# Altium footprint library Footprint.PcbLib: 105 footprints (part 7 of 7)
Each footprint in its own frame and in the unit in brackets; x right, y up, seen from the top. Pads: shape width x height; smd on the part's side, far side on the other; paste and mask are expansions set on the pad; w line width, h text height; cw(c..) or ccw(c..) is an arc to the next point about the centre after c.
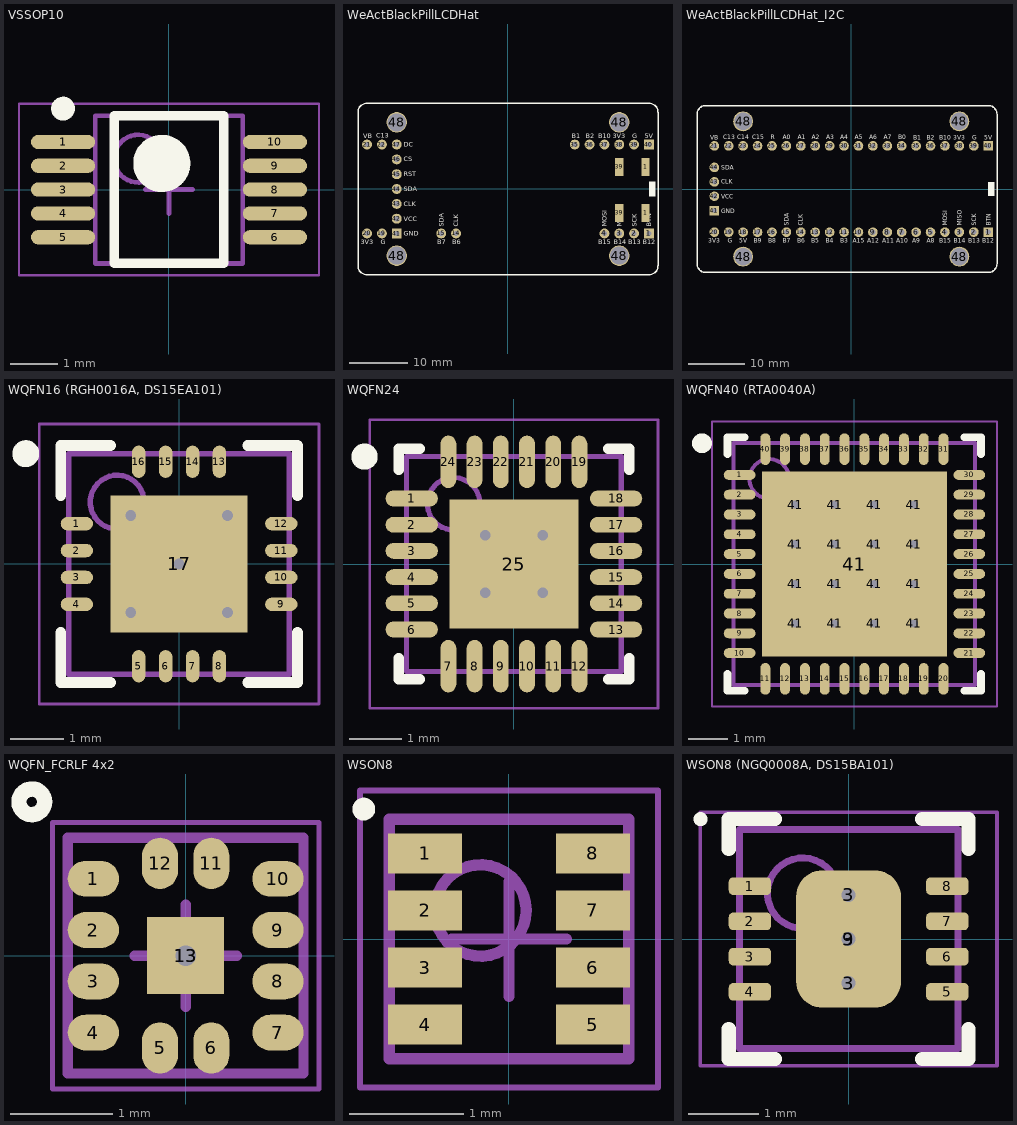
[diagram p6: the footprints below, top view; thin cyan lines are the x and y axes]

## VSSOP10 [mm]
height 1.1
pads (10):
  oval 1.35x0.3 smd: 1(-2.225,1) 2(-2.225,0.5) 3(-2.225,0) 4(-2.225,-0.5) 5(-2.225,-1) 6(2.225,-1) 7(2.225,-0.5) 8(2.225,0) 9(2.225,0.5) 10(2.225,1)
Top Overlay:
  circle w0.6: c-0.15,0.55 r0.3
  circle w0.25: c-2.225,1.7 r0.125
  lines w0.2: -1.15,-1.55 1.15,-1.55 1.15,1.55 -1.15,1.55 -1.15,-1.55
Mechanical 13:
  circle w0.1: c-0.65,0.65 r0.5
  lines w0.1: -1.55,-1.55 1.55,-1.55 1.55,1.55 -1.55,1.55 -1.55,-1.55
Mechanical 15:
  lines w0.05: -3.15,-1.8 3.15,-1.8 3.15,1.8 -3.15,1.8 -3.15,-1.8
  lines w0.1: -0.5,0 0.5,0 ; 0,-0.5 0,0.5
3D body: height 1.1, standoff 0.1, extent -1.55,-1.55 1.55,1.55

## WeActBlackPillLCDHat [mm]
pads (31):
  rect 1.4x3.1 smd: 1(23.55,-4.103) 1(23.55,3.797) 39(19.05,-4.103) 39(19.05,3.797)
  rect 1.7x1.7 hole 0.9: 1(24.13,-7.607) 40(24.13,7.607) 41(-19.05,-7.626)
  round 1.7 hole 0.9: 2(21.59,-7.607) 3(19.05,-7.607) 4(16.51,-7.607) 14(-8.89,-7.607) 15(-11.43,-7.607) 19(-21.59,-7.607) 20(-24.13,-7.607) 21(-24.13,7.607) 22(-21.59,7.607) 35(11.43,7.607) 36(13.97,7.607) 37(16.51,7.607) 38(19.05,7.607) 39(21.59,7.607) 42(-19.05,-5.086) 43(-19.05,-2.546) 44(-19.05,-0.006) 45(-19.05,2.534) 46(-19.05,5.074) 47(-19.05,7.614)
  round 3.5 hole 3.1: 48(-19.05,-11.417) 48(-19.05,11.417) 48(19.05,-11.417) 48(19.05,11.417)
Top Overlay:
  region: 25.273,1.27 24.13,1.27 24.13,-1.27 25.273,-1.27
  lines w0.254: -25.681,-13.167 ccw(c-24.155,-13.167) -24.182,-14.693 24.182,-14.693 ccw(c24.155,-13.167) 25.681,-13.167 25.681,13.167 ccw(c24.155,13.167) 24.182,14.693 -24.182,14.693 ccw(c-24.155,13.167) -25.681,13.167 -25.681,-13.167
  text "C13" at -22.55,8.75 h0.8
  text "DC" at -17.85,7.25 h0.8
  text "VCC" at -17.826,-5.501 h0.8
  text "GND" at -17.826,-8.042 h0.8
  text "SDA" at -17.826,-0.422 h0.8
  text "CLK" at -17.826,-2.922 h0.8
  text "B15" at 15.494,-9.482 h0.8
  text "B14" at 18.094,-9.482 h0.8
  text "B13" at 20.594,-9.482 h0.8
  text "B12" at 23.094,-9.482 h0.8
  text "CLK" at -8.506,-6.482 h0.8
  text "B6" at -9.506,-9.482 h0.8
  text "SDA" at -11.006,-6.481 h0.8
  text "B10" at 15.494,8.718 h0.8
  text "B2" at 13.294,8.718 h0.8
  text "B1" at 10.894,8.718 h0.8
  text "VB" at -24.806,8.718 h0.8
  text "3V3" at -25.206,-9.482 h0.8
  text "G" at -21.806,-9.482 h0.8
  text "5V" at 23.454,8.718 h0.8
  text "G" at 21.314,8.718 h0.8
  text "3V3" at 17.974,8.718 h0.8
  text "B7" at -12.106,-9.482 h0.8
  text "MOSI" at 16.934,-6.481 h0.8
  text "MISO" at 19.474,-6.481 h0.8
  text "SCK" at 22.014,-6.481 h0.8
  text "BTN" at 24.554,-6.481 h0.8
  text "CS" at -17.85,4.75 h0.8
  text "RST" at -17.85,2.21 h0.8

## WeActBlackPillLCDHat_I2C [mm]
pads (48):
  rect 1.7x1.7 hole 0.9: 1(24.13,-7.607) 40(24.13,7.607) 41(-24.13,-3.816)
  round 1.7 hole 0.9: 2(21.59,-7.607) 3(19.05,-7.607) 4(16.51,-7.607) 5(13.97,-7.62) 6(11.43,-7.62) 7(8.89,-7.62) 8(6.35,-7.62) 9(3.81,-7.62) 10(1.27,-7.62) 11(-1.27,-7.62) 12(-3.81,-7.62) 13(-6.35,-7.62) 14(-8.89,-7.607) 15(-11.43,-7.607) 16(-13.97,-7.62) 17(-16.51,-7.62) 18(-19.05,-7.62) 19(-21.59,-7.607) 20(-24.13,-7.607) 21(-24.13,7.607) 22(-21.59,7.607) 23(-19.05,7.595) 24(-16.51,7.595) 25(-13.97,7.595) 26(-11.43,7.595) 27(-8.89,7.595) 28(-6.35,7.595) 29(-3.81,7.595) 30(-1.27,7.595) 31(1.27,7.595) 32(3.81,7.595) 33(6.35,7.595) 34(8.89,7.595) 35(11.43,7.607) 36(13.97,7.607) 37(16.51,7.607) 38(19.05,7.607) 39(21.59,7.607) 42(-24.13,-1.276) 43(-24.13,1.264) 44(-24.13,3.804)
  round 3.5 hole 3.1: 48(-19.05,-11.917) 48(-19.05,11.917) 48(19.05,-11.917) 48(19.05,11.917)
Top Overlay:
  region: 25.273,1.27 24.13,1.27 24.13,-1.27 25.273,-1.27
  lines w0.254: -27.181,-13.167 ccw(c-25.655,-13.167) -25.682,-14.693 24.182,-14.693 ccw(c24.155,-13.167) 25.681,-13.167 25.681,13.167 ccw(c24.155,13.167) 24.182,14.693 -25.682,14.694 ccw(c-25.655,13.167) -27.181,13.167 -27.181,-13.167
  text "B5" at -7.026,-9.494 h0.8
  text "B4" at -4.486,-9.494 h0.8
  text "B3" at -1.946,-9.494 h0.8
  text "A15" at 0.294,-9.494 h0.8
  text "A12" at 2.834,-9.494 h0.8
  text "A11" at 5.474,-9.494 h0.8
  text "A10" at 7.914,-9.494 h0.8
  text "A9" at 10.754,-9.494 h0.8
  text "A8" at 13.294,-9.494 h0.8
  text "C13" at -22.55,8.75 h0.8
  text "VCC" at -22.906,-1.691 h0.8
  text "GND" at -22.906,-4.232 h0.8
  text "SDA" at -22.906,3.388 h0.8
  text "CLK" at -22.906,0.888 h0.8
  text "B15" at 15.494,-9.482 h0.8
  text "B14" at 18.094,-9.482 h0.8
  text "B13" at 20.594,-9.482 h0.8
  text "B12" at 23.094,-9.482 h0.8
  text "CLK" at -8.506,-6.482 h0.8
  text "B6" at -9.506,-9.482 h0.8
  text "SDA" at -11.006,-6.481 h0.8
  text "B10" at 15.494,8.718 h0.8
  text "B2" at 13.294,8.718 h0.8
  text "B1" at 10.894,8.718 h0.8
  text "VB" at -24.806,8.718 h0.8
  text "3V3" at -25.206,-9.482 h0.8
  text "G" at -21.806,-9.482 h0.8
  text "5V" at 23.454,8.718 h0.8
  text "G" at 21.314,8.718 h0.8
  text "3V3" at 17.974,8.718 h0.8
  text "B7" at -12.106,-9.482 h0.8
  text "MOSI" at 16.934,-6.481 h0.8
  text "MISO" at 19.474,-6.481 h0.8
  text "SCK" at 22.014,-6.481 h0.8
  text "BTN" at 24.554,-6.481 h0.8
  text "B0" at 8.25,8.75 h0.8
  text "A7" at 5.71,8.75 h0.8
  text "A6" at 3.17,8.75 h0.8
  text "A5" at 0.63,8.75 h0.8
  text "A4" at -1.91,8.75 h0.8
  text "A3" at -4.45,8.75 h0.8
  text "A2" at -6.99,8.75 h0.8
  text "A1" at -9.43,8.75 h0.8
  text "A0" at -12.07,8.75 h0.8
  text "R" at -14.21,8.75 h0.8
  text "C15" at -17.45,8.75 h0.8
  text "C14" at -20.09,8.75 h0.8
  text "B8" at -14.646,-9.494 h0.8
  text "B9" at -17.186,-9.494 h0.8
  text "5V" at -19.726,-9.494 h0.8

## WQFN16 (RGH0016A, DS15EA101) [mm]
height 0.8
pads (17):
  oval 0.6x0.25 smd: 1(-1.9,0.75) 2(-1.9,0.25) 3(-1.9,-0.25) 4(-1.9,-0.75) 9(1.9,-0.75) 10(1.9,-0.25) 11(1.9,0.25) 12(1.9,0.75)
  oval 0.25x0.6 smd: 5(-0.75,-1.9) 6(-0.25,-1.9) 7(0.25,-1.9) 8(0.75,-1.9) 13(0.75,1.9) 14(0.25,1.9) 15(-0.25,1.9) 16(-0.75,1.9)
  rect 2.55x2.55 smd: 17(0,0)
via -0.9,-0.9 diameter 0.5 hole 0.2
via -0.9,0.9 diameter 0.5 hole 0.2
via 0.9,0.9 diameter 0.5 hole 0.2
via 0.9,-0.9 diameter 0.5 hole 0.2
via 0,0 diameter 0.5 hole 0.2
Top Overlay:
  circle w0.25: c-2.85,2.05 r0.125
  lines w0.2: -2.2,-1.275 -2.2,-2.2 -1.275,-2.2 ; -2.2,1.275 -2.2,2.2 -1.275,2.2 ; 1.275,-2.2 2.2,-2.2 2.2,-1.275 ; 1.275,2.2 2.2,2.2 2.2,1.275
Mechanical 13:
  circle w0.1: c-1.15,1.15 r0.5
  lines w0.1: -2.05,-2.05 -2.05,2.05 2.05,2.05 2.05,-2.05 -2.05,-2.05
Mechanical 15:
  lines w0.05: -2.6,-2.6 -2.6,2.6 2.6,2.6 2.6,-2.6 -2.6,-2.6
  lines w0.1: -0.5,0 0.5,0 ; 0,-0.5 0,0.5
3D body: height 0.8, standoff 0.05, extent -2.05,-2.05 2.05,2.05

## WQFN24 [mm] "WQFN, 24-Leads, Body 4.00x4.00mm, Pitch 0.50mm, Thermal Pad 2.46x2.46mm, IPC Low Density"
height 0.8
pads (25):
  oval 1x0.3 smd: 1(-1.95,1.25) 2(-1.95,0.75) 3(-1.95,0.25) 4(-1.95,-0.25) 5(-1.95,-0.75) 6(-1.95,-1.25) 13(1.95,-1.25) 14(1.95,-0.75) 15(1.95,-0.25) 16(1.95,0.25) 17(1.95,0.75) 18(1.95,1.25)
  oval 0.3x1 smd: 7(-1.25,-1.95) 8(-0.75,-1.95) 9(-0.25,-1.95) 10(0.25,-1.95) 11(0.75,-1.95) 12(1.25,-1.95) 19(1.25,1.95) 20(0.75,1.95) 21(0.25,1.95) 22(-0.25,1.95) 23(-0.75,1.95) 24(-1.25,1.95)
  rect 2.46x2.46 smd: 25(0,0)
via -0.55,0.55 diameter 0.5 hole 0.2
via 0.55,0.55 diameter 0.5 hole 0.2
via -0.55,-0.55 diameter 0.5 hole 0.2
via 0.55,-0.55 diameter 0.5 hole 0.2
Top Overlay:
  circle w0.25: c-2.85,2.05 r0.125
  lines w0.2: -2.2,-1.8 -2.2,-2.2 -1.8,-2.2 ; -2.2,1.8 -2.2,2.2 -1.8,2.2 ; 1.8,-2.2 2.2,-2.2 2.2,-1.8 ; 1.8,2.2 2.2,2.2 2.2,1.8
Mechanical 13:
  circle w0.1: c-1.15,1.15 r0.5
  lines w0.1: -2.05,-2.05 -2.05,2.05 2.05,2.05 2.05,-2.05 -2.05,-2.05
Mechanical 15:
  lines w0.05: -2.75,-2.75 -2.75,2.75 2.75,2.75 2.75,-2.75 -2.75,-2.75
  lines w0.1: -0.5,0 0.5,0 ; 0,-0.5 0,0.5
3D body: height 0.8, standoff 0.05, extent -2.05,-2.05 2.05,2.05

## WQFN40 (RTA0040A) [mm]
height 0.8
pads (57):
  oval 0.8x0.25 smd: 1(-2.9,2.25) 2(-2.9,1.75) 3(-2.9,1.25) 4(-2.9,0.75) 5(-2.9,0.25) 6(-2.9,-0.25) 7(-2.9,-0.75) 8(-2.9,-1.25) 9(-2.9,-1.75) 10(-2.9,-2.25) 21(2.9,-2.25) 22(2.9,-1.75) 23(2.9,-1.25) 24(2.9,-0.75) 25(2.9,-0.25) 26(2.9,0.25) 27(2.9,0.75) 28(2.9,1.25) 29(2.9,1.75) 30(2.9,2.25)
  oval 0.25x0.8 smd: 11(-2.25,-2.9) 12(-1.75,-2.9) 13(-1.25,-2.9) 14(-0.75,-2.9) 15(-0.25,-2.9) 16(0.25,-2.9) 17(0.75,-2.9) 18(1.25,-2.9) 19(1.75,-2.9) 20(2.25,-2.9) 31(2.25,2.9) 32(1.75,2.9) 33(1.25,2.9) 34(0.75,2.9) 35(0.25,2.9) 36(-0.25,2.9) 37(-0.75,2.9) 38(-1.25,2.9) 39(-1.75,2.9) 40(-2.25,2.9)
  round 0.5 hole 0.2: 41(-1.5,-1.5) 41(-1.5,-0.5) 41(-1.5,0.5) 41(-1.5,1.5) 41(-0.5,-1.5) 41(-0.5,-0.5) 41(-0.5,0.5) 41(-0.5,1.5) 41(0.5,-1.5) 41(0.5,-0.5) 41(0.5,0.5) 41(0.5,1.5) 41(1.5,-1.5) 41(1.5,-0.5) 41(1.5,0.5) 41(1.5,1.5)
  rect 4.68x4.68 smd: 41(0,0)
Top Overlay:
  circle w0.25: c-3.85,3.05 r0.125
  lines w0.2: -3.2,-2.775 -3.2,-3.2 -2.775,-3.2 ; -3.2,2.775 -3.2,3.2 -2.775,3.2 ; 2.775,-3.2 3.2,-3.2 3.2,-2.775 ; 2.775,3.2 3.2,3.2 3.2,2.775
Mechanical 13:
  circle w0.1: c-2.15,2.15 r0.5
  lines w0.1: -3.05,-3.05 3.05,-3.05 3.05,3.05 -3.05,3.05 -3.05,-3.05
Mechanical 15:
  lines w0.05: -3.6,-3.6 3.6,-3.6 3.6,3.6 -3.6,3.6 -3.6,-3.6
3D body: height 0.8, standoff 0.05, extent -3.05,-3.05 3.05,3.05

## WQFN_FCRLF 4x2 [mm] "PQFN, 12-Leads, Body 2.00x2.00mm, Pitch 0.50mm, Thermal Pad 0.75x0.75mm, IPC Medium Density"
height 0.7
pads (14):
  oval 0.5x0.35 smd: 1(-0.9,0.75) 2(-0.9,0.25) 3(-0.9,-0.25) 4(-0.9,-0.75) 7(0.9,-0.75) 8(0.9,-0.25) 9(0.9,0.25) 10(0.9,0.75)
  oval 0.35x0.5 smd: 5(-0.25,-0.9) 6(0.25,-0.9) 11(0.25,0.9) 12(-0.25,0.9)
  rect 0.75x0.75 smd: 13(0,0)
  rect 0.7x0.7 hole 0.2: 13(0,0)
Top Overlay:
  circle w0.15: c-1.5,1.5 r0.125
Mechanical 13:
  lines w0.1: -1.15,-1.15 1.15,-1.15 1.15,1.15 -1.15,1.15 -1.15,-1.15
Mechanical 15:
  lines w0.05: -1.3,-1.3 1.3,-1.3 1.3,1.3 -1.3,1.3 -1.3,-1.3
  lines w0.1: -0.5,0 0.5,0 ; 0,-0.5 0,0.5
3D body: height 0.7, standoff 0.01, extent -1.2,-1.2 1.2,1.2

## WSON8 [mm] "WSON, 8-Leads, Body 2,00x2,00mm, Pitch 0,50mm, IPC Medium Density"
height 0.8
pads (8):
  rect 0.65x0.35 smd: 1(-0.735,0.75) 2(-0.735,0.25) 3(-0.735,-0.25) 4(-0.735,-0.75) 5(0.735,-0.75) 6(0.735,-0.25) 7(0.735,0.25) 8(0.735,0.75)
Top Overlay:
  circle w0.1: c-1.272,1.137 r0.05
Mechanical 13:
  circle w0.1: c-0.25,0.25 r0.4
  lines w0.1: -1.05,-1.05 -1.05,1.05 1.05,1.05 1.05,-1.05 -1.05,-1.05
Mechanical 15:
  lines w0.05: -1.305,-1.3 -1.305,1.3 1.305,1.3 1.305,-1.3 -1.305,-1.3
  lines w0.1: -0.5,0 0.5,0 ; 0,-0.5 0,0.5
3D body: height 0.8, standoff 0.05, extent -1.05,-1.05 1.05,1.05

## WSON8 (NGQ0008A, DS15BA101) [mm]
height 0.8
pads (12):
  rrect50% 0.6x0.25 smd: 1(-1.4,0.75) 2(-1.4,0.25) 3(-1.4,-0.25) 4(-1.4,-0.75) 5(1.4,-0.75) 6(1.4,-0.25) 7(1.4,0.25) 8(1.4,0.75)
  round 0.6 hole 0.2: 3(0,-0.625) 3(0,0) 3(0,0.625)
  rrect50% 1.49x1.95 smd: 9(0,0)
Top Overlay:
  circle w0.1: c-2.1,1.7 r0.05
  lines w0.2: -1.7,-1.275 -1.7,-1.7 -1.045,-1.7 ; -1.7,1.275 -1.7,1.7 -1.045,1.7 ; 1.045,-1.7 1.7,-1.7 1.7,-1.275 ; 1.045,1.7 1.7,1.7 1.7,1.275
Mechanical 13:
  circle w0.1: c-0.65,0.65 r0.5
  lines w0.1: -1.55,-1.55 1.55,-1.55 1.55,1.55 -1.55,1.55 -1.55,-1.55
Mechanical 15:
  lines w0.05: -2.105,-1.8 2.105,-1.8 2.105,1.8 -2.105,1.8 -2.105,-1.8
  lines w0.1: -0.5,0 0.5,0 ; 0,-0.5 0,0.5
3D body: height 0.8, standoff 0.08, extent -1.55,-1.55 1.55,1.55